# Altium schematic symbol library DisplayBoard.SchLib: 3 symbols
Pins are listed as number, name and electrical type; pins without a type are passive.

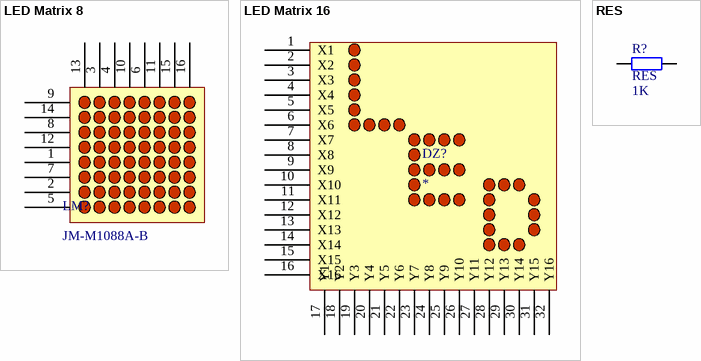
[diagram p0: symbols LED Matrix 8 to RES]

## LED Matrix 8
designator LM?, comment JM-M1088A-B
footprint LEDMatrix8
pins: 1 0, 2, 3, 4, 5, 6, 7, 8, 9, 10, 11, 12, 13, 14, 15, 16

## LED Matrix 16
designator DZ?
LED Matrix
pins: 1 X1, 2 X2, 3 X3, 4 X4, 5 X5, 6 X6, 7 X7, 8 X8, 9 X9, 10 X10, 11 X11, 12 X12, 13 X13, 14 X14, 15 X15, 16 X16, 17 Y1, 18 Y2, 19 Y3, 20 Y4, 21 Y5, 22 Y6, 23 Y7, 24 Y8, 25 Y9, 26 Y10, 27 Y11, 28 Y12, 29 Y13, 30 Y14, 31 Y15, 32 Y16

## RES
designator R?  value 1K
Resistor; Published: 8-Jun-2000; LatestRevisionDate: 17-Jul-2002; LatestRevisionNote: Re-released for DXP Platform.; Publisher: Altium Limited
footprint AXIAL-0.4 (Resistor; 2 Leads)
footprint 0805 (Chip Resistor, 2-Leads, Body 2.0x1.3mm, IPC Medium Density)
pins: 1, 2